# EAGLE library part POLOLUSTEPPERDRIVER (library reprap)
Pololu stepper driver based on the A4983.
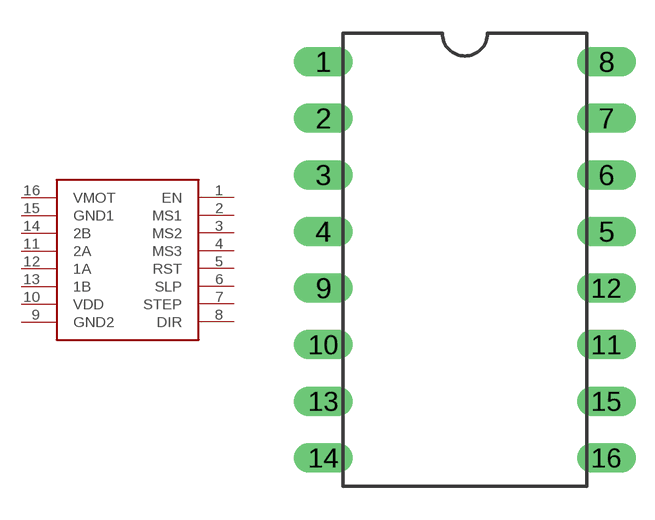
[diagram p12: symbol with the pads of DIL16; footprint DIL16]

Designator prefix -

## POLOLUSTEPPERDRIVER  [DIL16]
1  EN  in
2  MS1  in
3  MS2  in
4  MS3  in
5  RST  in
6  SLP  in
7  STEP  in
8  DIR  in
9  GND2  pwr
10  VDD  pwr
11  2A  out
12  1A  out
13  1B  out
14  2B  out
15  GND1  pwr
16  VMOT  pwr

## Footprint DIL16 (pad centres in mm)
drill 0.813 long: 1 -17.78,8.89; 2 -17.78,6.35; 3 -17.78,3.81; 4 -17.78,1.27; 5 -5.08,1.27; 6 -5.08,3.81; 7 -5.08,6.35; 8 -5.08,8.89; 9 -17.78,-1.27; 10 -17.78,-3.81; 11 -5.08,-3.81; 12 -5.08,-1.27; 13 -17.78,-6.35; 14 -17.78,-8.89; 15 -5.08,-6.35; 16 -5.08,-8.89